# Altium footprint library philips_led.PcbLib: 1 footprints
Each footprint in its own frame and in the unit in brackets; x right, y up, seen from the top. Pads: shape width x height; smd on the part's side, far side on the other; paste and mask are expansions set on the pad; w line width, h text height; cw(c..) or ccw(c..) is an arc to the next point about the centre after c.
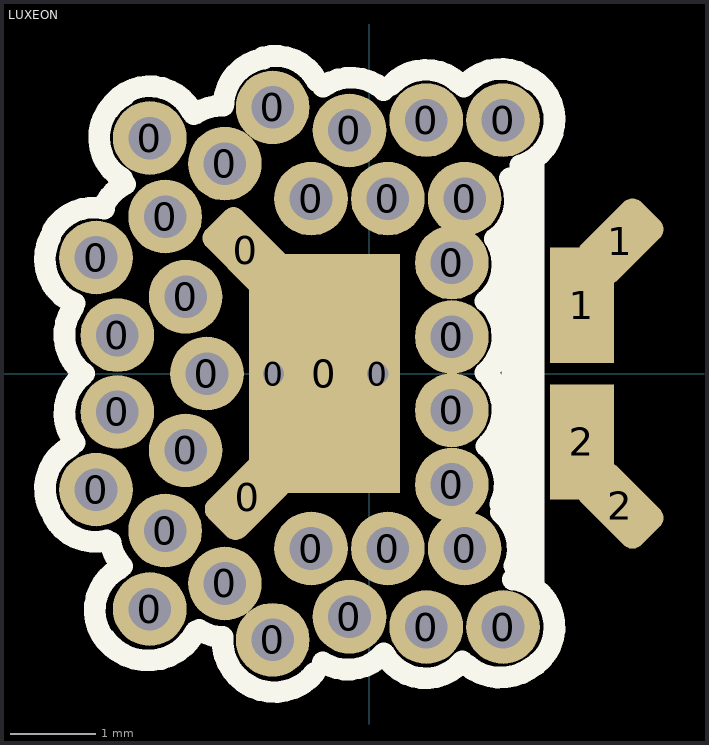
[diagram p0: the footprint, top view; thin cyan lines are the x and y axes]

## LUXEON [mm]
pads (40):
  round 0.864 hole 0.5: 0(-3.2,-1.36) 0(-3.2,1.36) 0(-2.95,-0.45) 0(-2.95,0.45) 0(-2.57,-2.76) 0(-2.57,2.76) 0(-2.39,-1.84) 0(-2.39,1.84) 0(-2.15,-0.9) 0(-2.15,0.9) 0(-1.9,0) 0(-1.69,-2.46) 0(-1.69,2.46) 0(-1.13,-3.12) 0(-1.13,3.12) 0(-0.68,-2.05) 0(-0.68,2.05) 0(-0.23,-2.85) 0(-0.23,2.85) 0(0.22,-2.05) 0(0.22,2.05) 0(0.67,-2.97) 0(0.67,2.97) 0(0.97,-1.3) 0(0.97,-0.43) 0(0.97,0.43) 0(0.97,1.3) 0(1.12,-2.05) 0(1.12,2.05) 0(1.57,-2.97) 0(1.57,2.97)
  rrect50% 0.6x1 smd rot 45: 0(-1.448,1.448) 2(2.946,-1.549)
  rrect50% 0.6x1 smd rot 135: 0(-1.422,-1.448) 1(2.946,1.549)
  round 0.5 hole 0.25: 0(-1.12,0) 0(0.1,0)
  rect 1.77x2.8 smd: 0(-0.525,0)
  rect 0.75x1.35 smd: 1(2.495,0.8) 2(2.495,-0.8)
Top Overlay:
  lines w0.152: 1.626,-1.194 1.626,1.691 cw(c1.712,1.691) 1.651,1.753 ; 1.854,-2.362 1.854,2.237 ccw(c1.568,2.237) 1.77,2.439 ccw(c1.874,2.335) 1.727,2.335 1.727,-1.59 cw(c1.64,-1.59) 1.702,-1.651 1.8,-1.75 cw(c1.67,-1.88) 1.854,-1.88 ; 1.981,-2.489 1.981,2.464
  lines w0.254: -3.744,-1.594 cw(c-3.241,-1.351) -3.504,-0.858 ; -3.736,1.601 ccw(c-3.241,1.341) -3.45,0.823 ; -3.708,1.676 cw(c-3.231,1.386) -3.105,1.931 ; -3.702,-1.677 ccw(c-3.209,-1.413) -3.073,-1.955 ; -3.47,0.773 ccw(c-3.012,0.452) -3.34,0 ; -3.448,-0.812 cw(c-3.012,-0.462) -3.356,-0.021 ; -3.121,1.938 cw(c-2.606,1.722) -2.861,2.22 ; -3.1,-3.1 ccw(c-2.59,-2.736) -2.032,-3.023 ; -3.048,3.099 cw(c-2.57,2.809) -2.077,3.073 ; -3.03,-1.978 ccw(c-2.479,-1.884) -2.895,-2.258 ; -2.946,-3.251 cw(c-2.656,-2.773) -2.92,-2.28 ; -2.896,2.286 cw(c-2.606,2.764) -2.869,3.257 ; -2.053,3.038 cw(c-1.732,2.58) -1.707,3.139 ; -1.992,-3.004 ccw(c-1.697,-2.529) -1.754,-3.085 ; -1.718,-3.088 ccw(c-1.11,-3.125) -0.635,-3.505 ; -1.706,3.172 cw(c-1.148,3.139) -1.238,3.691 ; -1.244,3.706 cw(c-1.102,3.165) -0.61,3.429 ; -0.544,-3.385 ccw(c-0.249,-2.91) 0.173,-3.277 ; -0.539,3.361 cw(c-0.208,2.91) 0.169,3.323 ; 0.172,-3.276 ccw(c0.665,-3.012) 1.094,-3.371 ; 0.254,3.378 cw(c0.667,3.002) 1.061,3.398 ; 1.108,3.361 cw(c1.545,3.012) 1.898,3.445 ; 1.146,-3.415 ccw(c1.541,-2.963) 1.879,-3.46 ccw(c1.615,-2.967) 1.685,-2.412 ; 1.365,0.008 ccw(c1.005,0.437) 1.374,0.857 ; 1.365,0.846 ccw(c1.005,1.275) 1.474,1.579 ; 1.376,-0.851 cw(c1.031,-1.291) 1.536,-1.531 ; 1.391,-0.832 ccw(c1.005,-0.427) 1.435,-0.07 ; 1.475,1.578 ccw(c1.152,2.034) 1.651,2.286 ; 1.545,-1.626 cw(c1.183,-2.053) 1.705,-2.252 ; 1.77,2.439 ccw(c1.615,2.977) 1.905,3.454
Top Solder:
  rectangle: -0.787,-0.483 -0.254,0.483
  rectangle: -1.473,-1.448 0.406,-0.356
  rectangle: -1.473,0.356 0.406,1.448
  lines w0.254: -1.09,-0.433 ccw(c-1.12,0) -1.072,0.431 ; 0.056,-0.431 cw(c0.104,0) 0.074,0.433
3D body: height 1.92, standoff -0.04, extent -1.524,-1.526 2.966,1.524